# Altium footprint library PcbLib1.PcbLib: 34 footprints (part 2 of 3)
Each footprint in its own frame and in the unit in brackets; x right, y up, seen from the top. Pads: shape width x height; smd on the part's side, far side on the other; paste and mask are expansions set on the pad; w line width, h text height; cw(c..) or ccw(c..) is an arc to the next point about the centre after c.
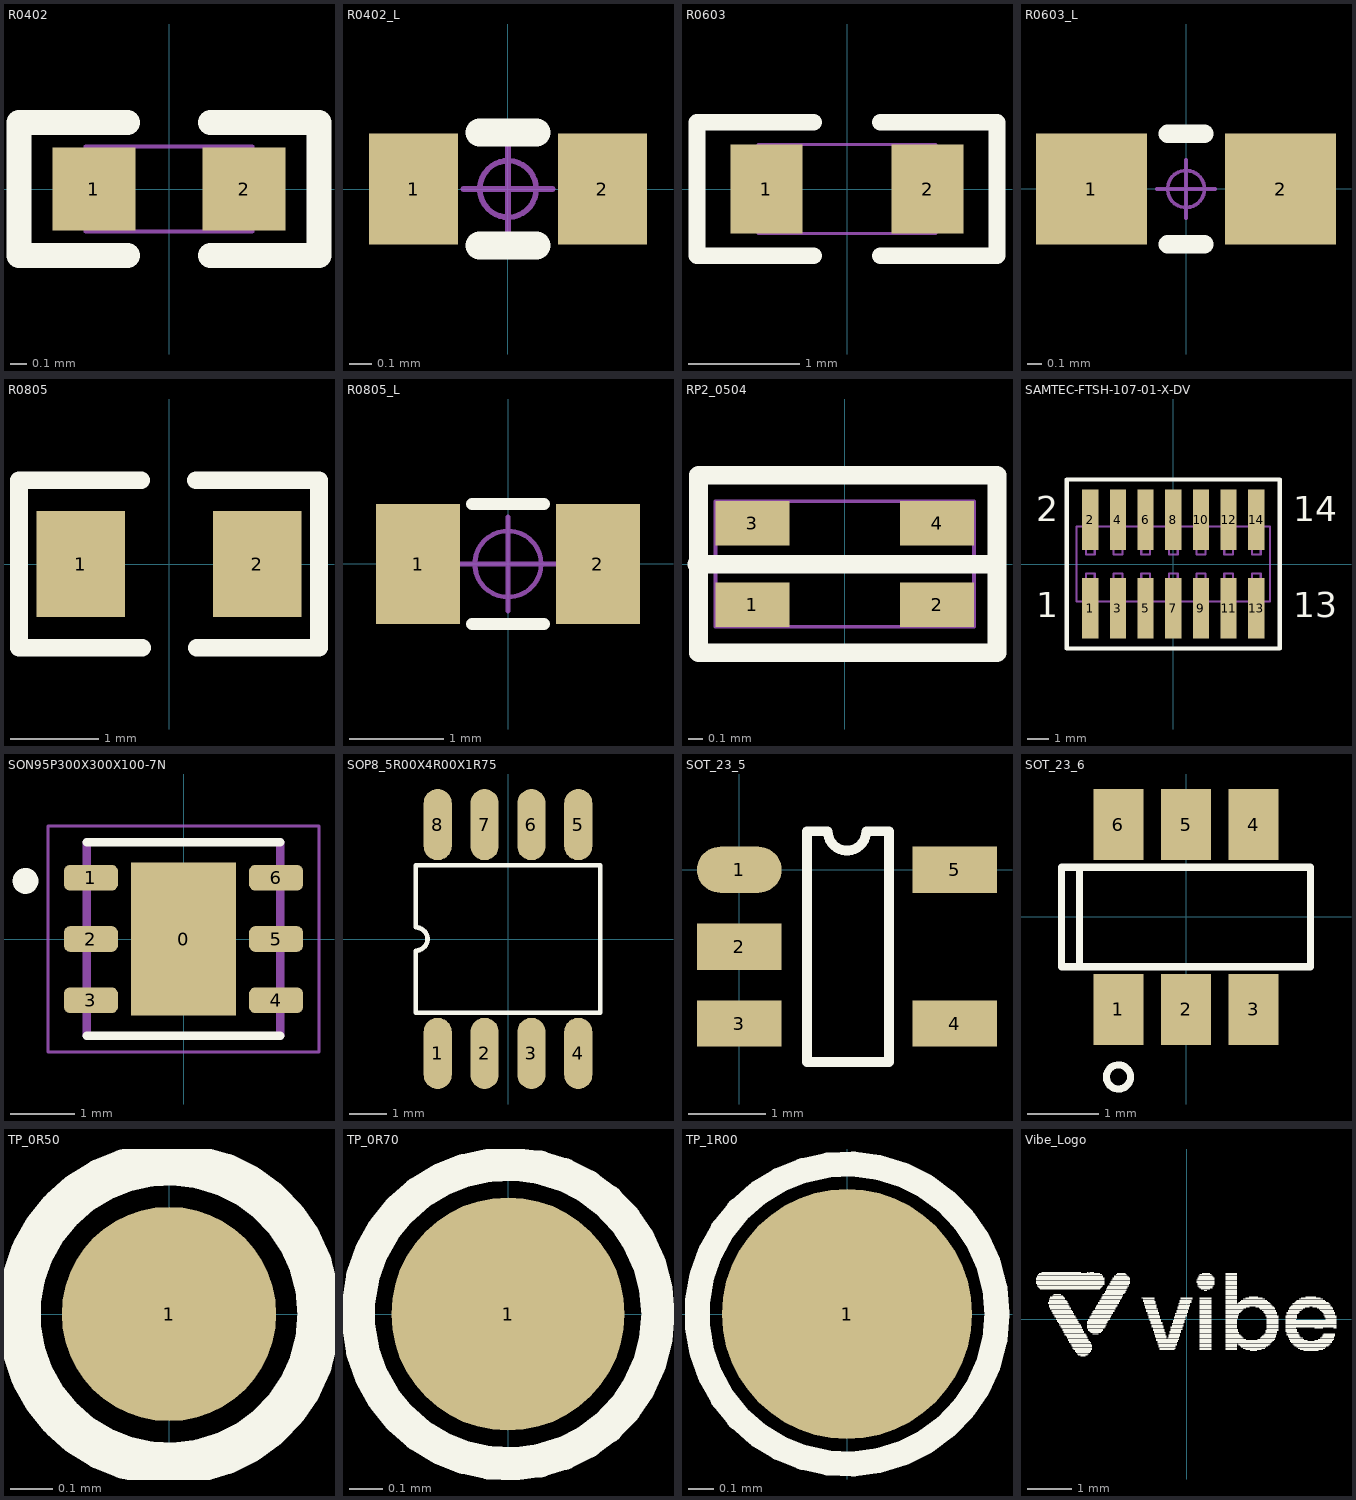
[diagram p1: the footprints below, top view; thin cyan lines are the x and y axes]

## R0402 [mm]
pads (2):
  rect 0.5x0.5 smd mask+0.05: 1(-0.45,0) 2(0.45,0)
Top Overlay:
  lines w0.15: -0.25,-0.4 -0.9,-0.4 -0.9,0.4 -0.25,0.4 ; 0.25,-0.4 0.9,-0.4 0.9,0.4 0.25,0.4
Top Assembly:
  lines w0.025: -0.5,-0.255 0.5,-0.255 0.5,0.255 -0.5,0.255 -0.5,-0.255 ; -0.5,-0.25 -0.3,-0.25 -0.3,0.25 -0.5,0.25 -0.5,-0.25 ; 0.3,-0.25 0.5,-0.25 0.5,0.25 0.3,0.25 0.3,-0.25

## R0402_L [mm] "1/16W贴片电阻"
pads (2):
  rect 0.4x0.5 smd: 1(-0.425,0) 2(0.425,0)
Top Overlay:
  lines w0.127: -0.127,-0.254 0.127,-0.254 ; -0.127,0.254 0.127,0.254
Mechanical 15:
  circle w0.025: c0,0 r0.127
  lines w0.025: -0.2,0 0.2,0 ; 0,-0.2 0,0.2
3D body "R0402.STEP": height 0.3, standoff 0, extent -0.5,-0.25 0.5,0.25

## R0603 [mm]
pads (2):
  rect 0.65x0.8 smd mask+0.05: 1(-0.725,0) 2(0.725,0)
Top Overlay:
  lines w0.15: -0.3,-0.6 -1.35,-0.6 -1.35,0.6 -0.3,0.6 ; 0.3,-0.6 1.35,-0.6 1.35,0.6 0.3,0.6
Mechanical 1:
  lines w0.025: -0.5,-0.4 -0.5,0.4 ; 0.5,-0.4 0.5,0.4 ; -0.8,-0.4 0.8,-0.4 0.8,0.4 -0.8,0.4 -0.8,-0.4

## R0603_L [mil] "1/10W贴片电阻"
pads (2):
  rect 30x30 smd: 1(-25.59,0) 2(25.59,0)
Top Overlay:
  lines w5: -5,-15 5,-15 ; -5,15 5,15
Mechanical 15:
  circle w1: c0,0 r5
  lines w1: -7.87,0 7.87,0 ; 0,-7.87 0,7.87
3D body "R0603.STEP": height 15.79, standoff 0, extent -31.49,-15.74 31.5,15.75

## R0805 [mm]
pads (2):
  rect 1x1.2 smd mask+0.05: 1(-1,0) 2(1,0)
Top Overlay:
  lines w0.2: -0.316,0.95 -1.7,0.95 -1.7,-0.95 -0.305,-0.95 ; 0.306,0.95 1.7,0.95 1.7,-0.95 0.316,-0.95

## R0805_L [mil] "1/8W贴片电阻"
pads (2):
  rect 35x50 smd: 1(-37.4,0) 2(37.4,0)
Top Overlay:
  lines w5: -15,-25 15,-25 ; -15,25 15,25
Mechanical 15:
  circle w1.97: c0,0 r13.78
  lines w1.97: -19.68,0 19.68,0 ; 0,-19.68 0,19.68
3D body "R0805.STEP": height 19.72, standoff 0, extent -39.36,-24.6 39.38,24.61

## RP2_0504 [mm]
pads (4):
  rect 0.5x0.3 smd mask+0.05: 1(-0.625,-0.275) 2(0.625,-0.275) 3(-0.625,0.275) 4(0.625,0.275)
Top Overlay:
  lines w0.127: -1,-0.002 1,-0.002 ; -0.99,-0.6 1.03,-0.6 1.03,0.6 -0.99,0.6 -0.99,-0.6
Mechanical 1:
  lines w0.025: -0.875,-0.425 0.875,-0.425 0.875,0.425 -0.875,0.425 -0.875,-0.425

## SAMTEC-FTSH-107-01-X-DV [mil]
pads (14):
  rect 29.13x109.84 smd: 1(-150,-80) 2(-150,80) 3(-100,-80) 4(-100,80) 5(-50,-80) 6(-50,80) 7(0,-80) 8(0,80) 9(50,-80) 10(50,80) 11(100,-80) 12(100,80) 13(150,-80) 14(150,80)
Top Overlay:
  lines w7.87: -192.72,-152.68 -192.72,152.68 192.72,152.68 192.72,-152.68 -192.72,-152.68
  text "1" at -248.07,-112.01 h77.5
  text "2" at -248.07,62.01 h77.5
  text "13" at 216.58,-112.01 h77.5
  text "14" at 216.58,62.01 h77.5
Top Paste:
  rectangle: -164.57,-134.92 -135.43,-25.08
  rectangle: -164.57,25.08 -135.43,134.92
  rectangle: -114.57,-134.92 -85.43,-25.08
  rectangle: -114.57,25.08 -85.43,134.92
  rectangle: -64.57,-134.92 -35.43,-25.08
  rectangle: -64.57,25.08 -35.43,134.92
  rectangle: -14.57,-134.92 14.57,-25.08
  rectangle: -14.57,25.08 14.57,134.92
  rectangle: 35.43,-134.92 64.57,-25.08
  rectangle: 35.43,25.08 64.57,134.92
  rectangle: 85.43,-134.92 114.57,-25.08
  rectangle: 85.43,25.08 114.57,134.92
  rectangle: 135.43,-134.92 164.57,-25.08
  rectangle: 135.43,25.08 164.57,134.92
Top Solder:
  rectangle: -166.58,-136.93 -133.43,-23.07
  rectangle: -166.58,23.07 -133.43,136.93
  rectangle: -116.58,-136.93 -83.43,-23.07
  rectangle: -116.58,23.07 -83.43,136.93
  rectangle: -66.58,-136.93 -33.43,-23.07
  rectangle: -66.58,23.07 -33.43,136.93
  rectangle: -16.58,-136.93 16.58,-23.07
  rectangle: -16.58,23.07 16.58,136.93
  rectangle: 33.43,-136.93 66.58,-23.07
  rectangle: 33.43,23.07 66.58,136.93
  rectangle: 83.43,-136.93 116.58,-23.07
  rectangle: 83.43,23.07 116.58,136.93
  rectangle: 133.43,-136.93 166.58,-23.07
  rectangle: 133.43,23.07 166.58,136.93
Mechanical 16:
  lines w3.94: -157.99,-67.48 -157.99,-115 -142.01,-115 -142.01,-67.48 ; -157.99,-33.5 -142.01,-33.5 ; -157.99,67.48 -157.99,115 -142.01,115 -142.01,67.48 ; -107.99,-67.48 -107.99,-115 -92.01,-115 -92.01,-67.48 ; -107.99,-33.5 -92.01,-33.5 ; -107.99,67.48 -107.99,115 -92.01,115 -92.01,67.48 ; -57.99,-67.48 -57.99,-115 -42.01,-115 -42.01,-67.48 ; -57.99,-33.5 -42.01,-33.5 ; -57.99,67.48 -57.99,115 -42.01,115 -42.01,67.48 ; -7.99,-67.48 -7.99,-115 7.99,-115 7.99,-67.48 ; -7.99,-33.5 7.99,-33.5 ; -7.99,67.48 -7.99,115 7.99,115 7.99,67.48 ; 42.01,-67.48 42.01,-115 57.99,-115 57.99,-67.48 ; 42.01,-33.5 57.99,-33.5 ; 42.01,67.48 42.01,115 57.99,115 57.99,67.48 ; 92.01,-67.48 92.01,-115 107.99,-115 107.99,-67.48 ; 92.01,-33.5 107.99,-33.5 ; 92.01,67.48 92.01,115 107.99,115 107.99,67.48 ; 142.01,-67.48 142.01,-115 157.99,-115 157.99,-67.48 ; 142.01,-33.5 157.99,-33.5 ; 142.01,67.48 142.01,115 157.99,115 157.99,67.48 ; -175,-67.48 -125,-67.48 -75,-67.48 -25,-67.48 25,-67.48 75,-67.48 125,-67.48 175,-67.48 175,67.48 125,67.48 75,67.48 25,67.48 -25,67.48 -75,67.48 -125,67.48 -175,67.48 -175,-67.48 ; -157.99,-32.99 -142.01,-32.99 -142.01,-17.01 -157.99,-17.01 -157.99,-32.99 ; -157.99,17.01 -142.01,17.01 -142.01,32.99 -157.99,32.99 -157.99,17.01 ; -107.99,-32.99 -92.01,-32.99 -92.01,-17.01 -107.99,-17.01 -107.99,-32.99 ; -107.99,17.01 -92.01,17.01 -92.01,32.99 -107.99,32.99 -107.99,17.01 ; -57.99,-32.99 -42.01,-32.99 -42.01,-17.01 -57.99,-17.01 -57.99,-32.99 ; -57.99,17.01 -42.01,17.01 -42.01,32.99 -57.99,32.99 -57.99,17.01 ; -7.99,-32.99 7.99,-32.99 7.99,-17.01 -7.99,-17.01 -7.99,-32.99 ; -7.99,17.01 7.99,17.01 7.99,32.99 -7.99,32.99 -7.99,17.01 ; 42.01,-32.99 57.99,-32.99 57.99,-17.01 42.01,-17.01 42.01,-32.99 ; 42.01,17.01 57.99,17.01 57.99,32.99 42.01,32.99 42.01,17.01 ; 92.01,-32.99 107.99,-32.99 107.99,-17.01 92.01,-17.01 92.01,-32.99 ; 92.01,17.01 107.99,17.01 107.99,32.99 92.01,32.99 92.01,17.01 ; 142.01,-32.99 157.99,-32.99 157.99,-17.01 142.01,-17.01 142.01,-32.99 ; 142.01,17.01 157.99,17.01 157.99,32.99 142.01,32.99 142.01,17.01
  text "1" at -248.07,-112.01 h77.5
  text "2" at -248.07,62.01 h77.5
  text "13" at 216.58,-112.01 h77.5
  text "14" at 216.58,62.01 h77.5

## SON95P300X300X100-7N [mm]
pads (7):
  rect 1.625x2.365 smd paste-2: 0(0,0)
  rrect50% 0.84x0.4 smd: 1(-1.435,0.95) 2(-1.435,0) 3(-1.435,-0.95) 4(1.435,-0.95) 5(1.435,0) 6(1.435,0.95)
Top Overlay:
  circle w0.2: c-2.45,0.9 r0.1
  lines w0.127: -1.5,-1.5 1.5,-1.5 ; -1.5,1.5 1.5,1.5
Top Paste:
  region: 0.57,-0.83 -0.57,-0.83 -0.57,0.83 0.57,0.83
Mechanical 13:
  lines w0.127: -1.5,-1.5 -1.5,1.5 ; 1.5,-1.5 1.5,1.5
Mechanical 15:
  lines w0.05: -2.1,-1.75 -2.1,1.75 2.1,1.75 2.1,-1.75 -2.1,-1.75

## SOP8_5R00X4R00X1R75 [mil]
pads (8):
  oval 30x76 smd mask+1.97: 1(-75,-122.05) 2(-25,-122.05) 3(25,-122.05) 4(75,-122.05) 5(75,122.05) 6(25,122.05) 7(-25,122.05) 8(-75,122.05)
Top Overlay:
  lines w5: -98.43,-78.74 98.43,-78.74 98.43,78.74 -98.43,78.74 -98.43,12.5 cw(c-98.43,0) -98.43,-12.5 -98.43,-78.74

## SOT_23_5 [mm]
pads (5):
  oval 1.1x0.6 smd mask+0.05: 1(0,0)
  rect 1.1x0.6 smd mask+0.05: 2(0,-1) 3(0,-2) 4(2.8,-2) 5(2.8,0)
Top Overlay:
  lines w0.127: 0.879,-2.5 1.947,-2.5 1.947,0.5 1.65,0.5 cw(c1.4,0.5) 1.15,0.5 0.879,0.5 0.879,-2.5

## SOT_23_6 [mm]
pads (6):
  rect 0.7x1 smd mask+0.05: 1(-0.95,-1.3) 2(0,-1.3) 3(0.95,-1.3) 4(0.95,1.3) 5(0,1.3) 6(-0.95,1.3)
Top Overlay:
  circle w0.1: c-0.95,-2.25 r0.17
  lines w0.1: -1.5,-0.7 -1.5,0.7 ; -1.75,-0.7 1.75,-0.7 1.75,0.7 -1.75,0.7 -1.75,-0.7

## TP_0R50 [mm]
pads (1):
  round 0.5 smd mask+0.05: 1(0,0)
Top Overlay:
  circle w0.1: c0,0 r0.35

## TP_0R70 [mm]
pads (1):
  round 0.7 smd mask+0.05: 1(0,0)
Top Overlay:
  circle w0.1: c0,0 r0.45

## TP_1R00 [mm]
pads (1):
  round 1 smd mask+0.05: 1(0,0)
Top Overlay:
  circle w0.1: c0,0 r0.6

## Vibe_Logo [mm]
Top Overlay:
  drawing of 974 lines, arcs and shapes, not listed